# Altium schematic symbol library General_Component.SchLib: 12 symbols
Pins are listed as number, name and electrical type; pins without a type are passive.

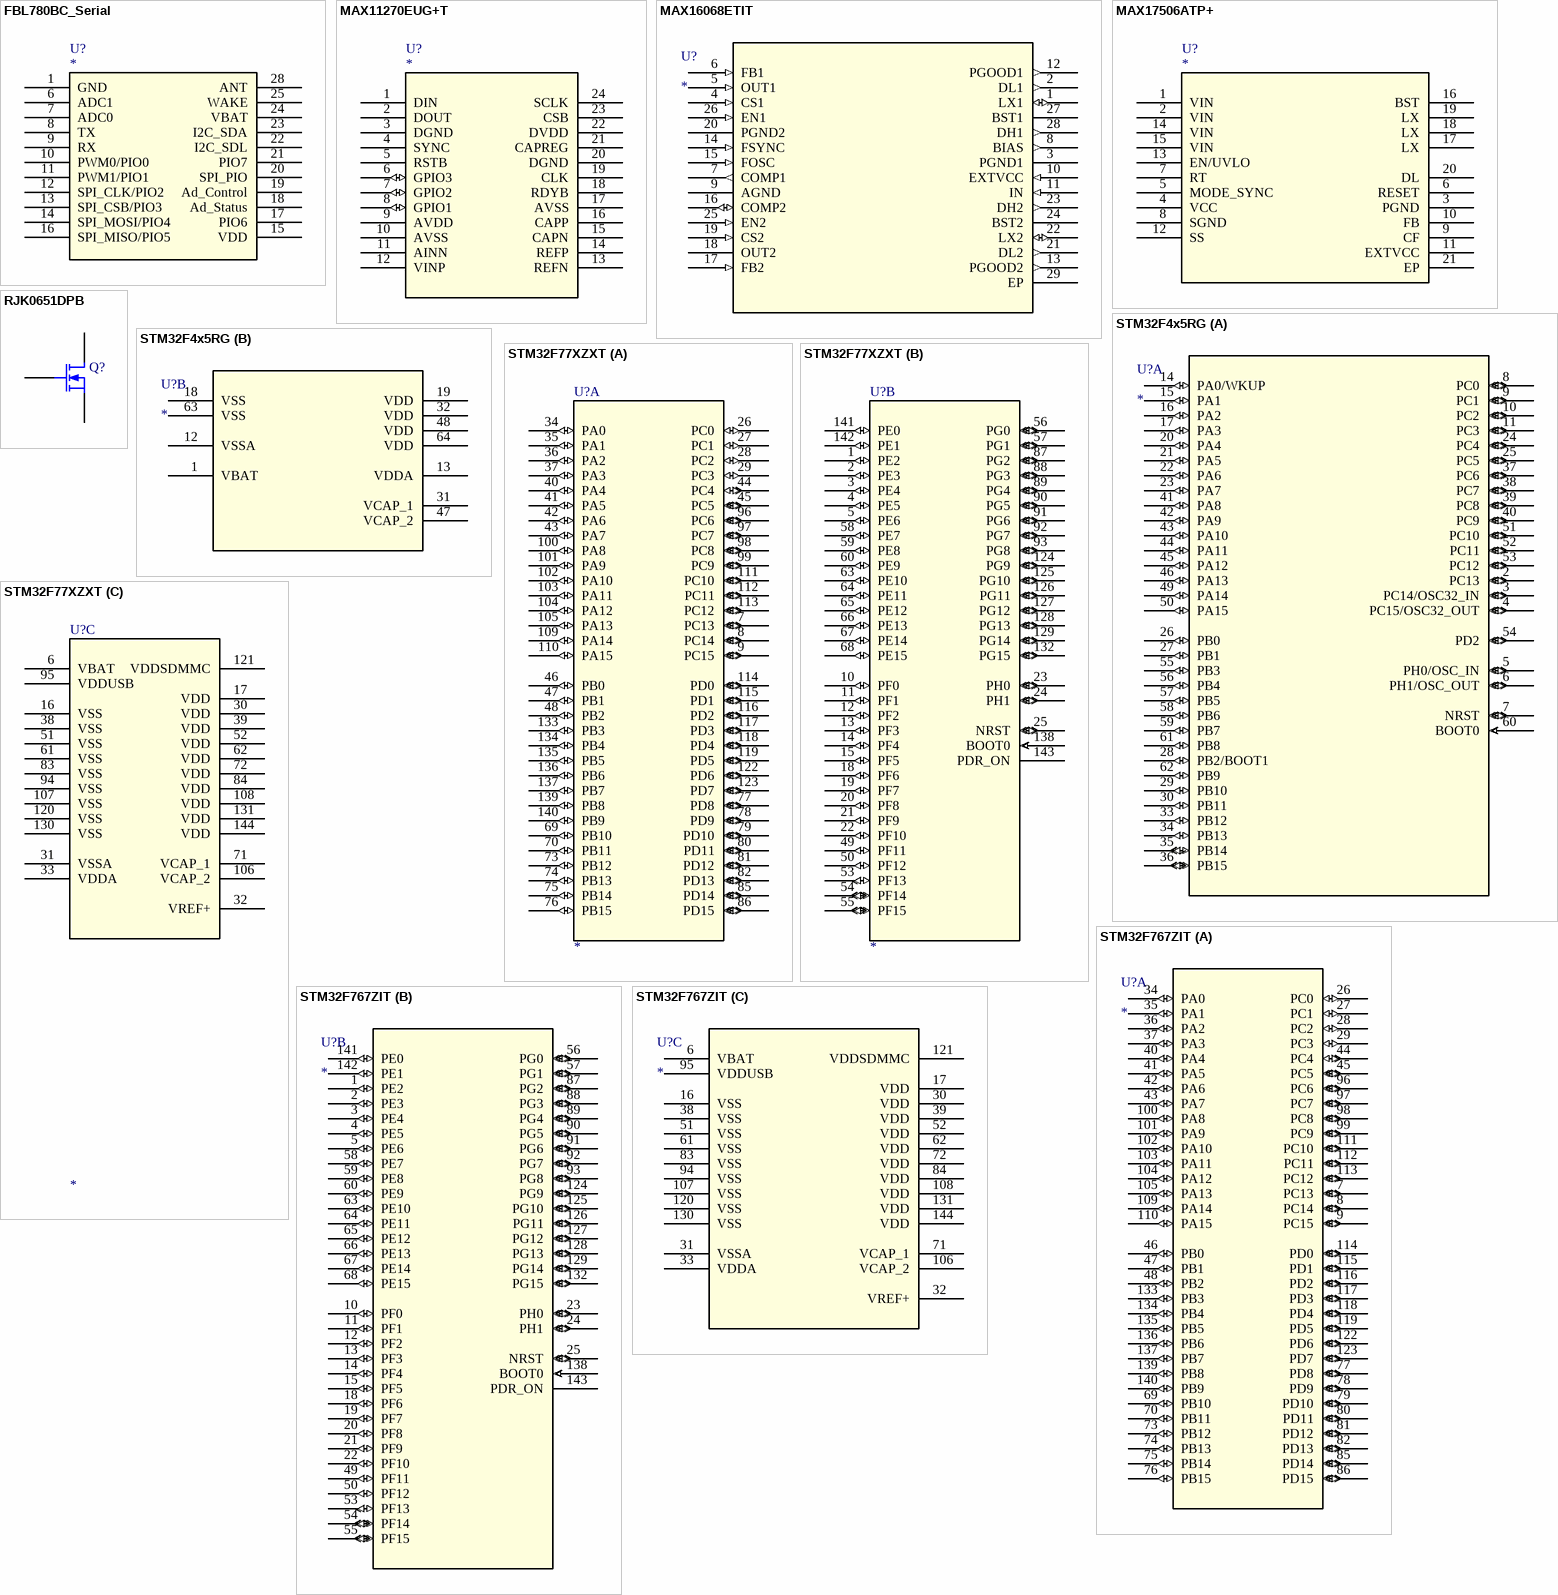
[diagram p0: symbols FBL780BC_Serial to STM32F767ZIT]

## FBL780BC_Serial
designator U?
Manufacturer: Firmtech; PartNumber: FBL780BC_Serial
footprint FBL780BC_Serial
pins: 1 GND (power), 6 ADC1, 7 ADC0, 8 TX, 9 RX, 10 PWM0/PIO0, 11 PWM1/PIO1, 12 SPI_CLK/PIO2, 13 SPI_CSB/PIO3, 14 SPI_MOSI/PIO4, 15 VDD (power), 16 SPI_MISO/PIO5, 17 PIO6, 18 Ad_Status, 19 Ad_Control, 20 SPI_PIO, 21 PIO7, 22 I2C_SDL, 23 I2C_SDA, 24 VBAT (power), 25 WAKE, 28 ANT

## MAX11270EUG+T
designator U?
Imported; PartNumber: MAX111270EUG+T; Manufacturer: Maxim; Value: Value; Type: Type; RefDes: RefDes
footprint 21-0066J_24
pins: 1 DIN, 2 DOUT, 3 DGND (power), 4 SYNC, 5 RSTB, 6 GPIO3 (io), 7 GPIO2 (io), 8 GPIO1 (io), 9 AVDD (power), 10 AVSS (power), 11 AINN, 12 VINP, 13 REFN, 14 REFP, 15 CAPN, 16 CAPP, 17 AVSS (power), 18 RDYB, 19 CLK, 20 DGND (power), 21 CAPREG (power), 22 DVDD (power), 23 CSB, 24 SCLK

## MAX16068ETIT
designator U?
Imported; Manufacturer_Part_Number: MAX16068ETI+T; Vendor: MAXIM; Manufacturer_Name: Maxim; Value: Value; Type: Type; RefDes: RefDes
footprint 21-0140L_T2855-6
pins: 1 LX1 (io), 2 DL1 (out), 3 PGND1 (power), 4 CS1 (in), 5 OUT1 (in), 6 FB1 (in), 7 COMP1 (out), 8 BIAS (out), 9 AGND (power), 10 EXTVCC (in), 11 IN (in), 12 PGOOD1 (out), 13 PGOOD2 (out), 14 FSYNC (in), 15 FOSC (in), 16 COMP2 (io), 17 FB2 (in), 18 OUT2, 19 CS2 (in), 20 PGND2 (power), 21 DL2 (out), 22 LX2 (io), 23 DH2 (out), 24 BST2, 25 EN2 (in), 26 EN1 (in), 27 BST1, 28 DH1 (out), 29 EP (power)

## MAX17506ATP+
designator U?
Manufacturer: Maxim; PartNumber: MAX17506ATP+; Value: Value; Type: Type; RefDes: RefDes
footprint 21-0140L_T2055-4
pins: 1 VIN, 2 VIN, 3 PGND, 4 VCC (power), 5 MODE_SYNC, 6 RESET, 7 RT, 8 SGND (power), 9 CF, 10 FB, 11 EXTVCC, 12 SS, 13 EN/UVLO, 14 VIN, 15 VIN, 16 BST, 17 LX, 18 LX, 19 LX, 20 DL, 21 EP

## RJK0651DPB
designator Q?, comment MOSFET-N  (value not drawn)
RJK0651DPB; Published: 8-Jun-2000; LatestRevisionDate: 17-Jul-2002; LatestRevisionNote: Re-released for DXP Platform.; PackageVersion: 1995/1996; PackageReference: E3; Publisher: Altium Limited; PackageDescription: TO, Flat Index; 3 In-Line, Axial Leads; Body Dia. 4.6mm; Lead Dia. 0.5 mm (max)
footprint SOT23-3
footprint SOIC127P600X175-8N (SOIC, 8-Leads, Body 4.90x3.90mm, Pitch 1.27mm, IPC Medium Density); pin to pad 1>2 2>3 3>1
footprint DPAK127P1525X483-7N (D2-PAK, 7-Pads, Body 7.93x8.63mm (max), IPC Medium Density)
pins: 1 G, 2 D, 3 S

## STM32F4x5RG
designator U?
Imported; PartNumber: STM32F405RG; Vendor: STMicroelectronics; Value: Value; Type: Type; RefDes: RefDes; Manufacturer: STMicroelectronics
footprint LQFP64-10x10mm
part A pins: 2 PC13 (io), 3 PC14/OSC32_IN (io), 4 PC15/OSC32_OUT (io), 5 PH0/OSC_IN (io), 6 PH1/OSC_OUT (io), 7 NRST (io), 8 PC0 (io), 9 PC1 (io), 10 PC2 (io), 11 PC3 (io), 14 PA0/WKUP (io), 15 PA1 (io), 16 PA2 (io), 17 PA3 (io), 20 PA4 (io), 21 PA5 (io), 22 PA6 (io), 23 PA7 (io), 24 PC4 (io), 25 PC5 (io), 26 PB0 (io), 27 PB1 (io), 28 PB2/BOOT1 (io), 29 PB10 (io), 30 PB11 (io), 33 PB12 (io), 34 PB13 (io), 35 PB14 (io), 36 PB15 (io), 37 PC6 (io), 38 PC7 (io), 39 PC8 (io), 40 PC9 (io), 41 PA8 (io), 42 PA9 (io), 43 PA10 (io), 44 PA11 (io), 45 PA12 (io), 46 PA13 (io), 49 PA14 (io), 50 PA15 (io), 51 PC10 (io), 52 PC11 (io), 53 PC12 (io), 54 PD2 (io), 55 PB3 (io), 56 PB4 (io), 57 PB5 (io), 58 PB6 (io), 59 PB7 (io), 60 BOOT0 (in), 61 PB8 (io), 62 PB9 (io)
part B pins: 1 VBAT (power), 12 VSSA (power), 13 VDDA (power), 18 VSS (power), 19 VDD (power), 31 VCAP_1 (power), 32 VDD (power), 47 VCAP_2 (power), 48 VDD (power), 63 VSS (power), 64 VDD (power)

## STM32F77XZXT
designator U?
Imported; Manufacturer_Part_Number: stm32f77xzxt; Vendor: STMicroelectronics; C: Copyright (C) 2016 Accelerated Designs. All rights reserved; Copyright: Copyright (C) 2016 Accelerated Designs. All rights reserved; Value: Value; Type: Type; RefDes: RefDes
footprint LQFP-144_20X20mm
part A pins: 7 PC13 (io), 8 PC14 (io), 9 PC15 (io), 26 PC0 (io), 27 PC1 (io), 28 PC2 (io), 29 PC3 (io), 34 PA0 (io), 35 PA1 (io), 36 PA2 (io), 37 PA3 (io), 40 PA4 (io), 41 PA5 (io), 42 PA6 (io), 43 PA7 (io), 44 PC4 (io), 45 PC5 (io), 46 PB0 (io), 47 PB1 (io), 48 PB2 (io), 69 PB10 (io), 70 PB11 (io), 73 PB12 (io), 74 PB13 (io), 75 PB14 (io), 76 PB15 (io), 77 PD8 (io), 78 PD9 (io), 79 PD10 (io), 80 PD11 (io), 81 PD12 (io), 82 PD13 (io), 85 PD14 (io), 86 PD15 (io), 96 PC6 (io), 97 PC7 (io), 98 PC8 (io), 99 PC9 (io), 100 PA8 (io), 101 PA9 (io), 102 PA10 (io), 103 PA11 (io), 104 PA12 (io), 105 PA13 (io), 109 PA14 (io), 110 PA15 (io), 111 PC10 (io), 112 PC11 (io), 113 PC12 (io), 114 PD0 (io), 115 PD1 (io), 116 PD2 (io), 117 PD3 (io), 118 PD4 (io), 119 PD5 (io), 122 PD6 (io), 123 PD7 (io), 133 PB3 (io), 134 PB4 (io), 135 PB5 (io), 136 PB6 (io), 137 PB7 (io), 139 PB8 (io), 140 PB9 (io)
part B pins: 1 PE2 (io), 2 PE3 (io), 3 PE4 (io), 4 PE5 (io), 5 PE6 (io), 10 PF0 (io), 11 PF1 (io), 12 PF2 (io), 13 PF3 (io), 14 PF4 (io), 15 PF5 (io), 18 PF6 (io), 19 PF7 (io), 20 PF8 (io), 21 PF9 (io), 22 PF10 (io), 23 PH0 (io), 24 PH1 (io), 25 NRST (io), 49 PF11 (io), 50 PF12 (io), 53 PF13 (io), 54 PF14 (io), 55 PF15 (io), 56 PG0 (io), 57 PG1 (io), 58 PE7 (io), 59 PE8 (io), 60 PE9 (io), 63 PE10 (io), 64 PE11 (io), 65 PE12 (io), 66 PE13 (io), 67 PE14 (io), 68 PE15 (io), 87 PG2 (io), 88 PG3 (io), 89 PG4 (io), 90 PG5 (io), 91 PG6 (io), 92 PG7 (io), 93 PG8 (io), 124 PG9 (io), 125 PG10 (io), 126 PG11 (io), 127 PG12 (io), 128 PG13 (io), 129 PG14 (io), 132 PG15 (io), 138 BOOT0 (in), 141 PE0 (io), 142 PE1 (io), 143 PDR_ON
part C pins: 6 VBAT (power), 16 VSS (power), 17 VDD (power), 30 VDD (power), 31 VSSA (power), 32 VREF+ (power), 33 VDDA (power), 38 VSS (power), 39 VDD (power), 51 VSS (power), 52 VDD (power), 61 VSS (power), 62 VDD (power), 71 VCAP_1 (power), 72 VDD (power), 83 VSS (power), 84 VDD (power), 94 VSS (power), 95 VDDUSB (power), 106 VCAP_2 (power), 107 VSS (power), 108 VDD (power), 120 VSS (power), 121 VDDSDMMC (power), 130 VSS (power), 131 VDD (power), 144 VDD (power)

## STM32F767ZIT
designator U?
Manufacturer_Part_Number: stm32f76xzxt; Vendor: STMicroelectronics; C: Copyright (C) 2016 Accelerated Designs. All rights reserved; Copyright: Copyright (C) 2016 Accelerated Designs. All rights reserved; Value: Value; Type: Type; RefDes: RefDes
footprint LQFP-144_20X20mm
part A pins: 7 PC13 (io), 8 PC14 (io), 9 PC15 (io), 26 PC0 (io), 27 PC1 (io), 28 PC2 (io), 29 PC3 (io), 34 PA0 (io), 35 PA1 (io), 36 PA2 (io), 37 PA3 (io), 40 PA4 (io), 41 PA5 (io), 42 PA6 (io), 43 PA7 (io), 44 PC4 (io), 45 PC5 (io), 46 PB0 (io), 47 PB1 (io), 48 PB2 (io), 69 PB10 (io), 70 PB11 (io), 73 PB12 (io), 74 PB13 (io), 75 PB14 (io), 76 PB15 (io), 77 PD8 (io), 78 PD9 (io), 79 PD10 (io), 80 PD11 (io), 81 PD12 (io), 82 PD13 (io), 85 PD14 (io), 86 PD15 (io), 96 PC6 (io), 97 PC7 (io), 98 PC8 (io), 99 PC9 (io), 100 PA8 (io), 101 PA9 (io), 102 PA10 (io), 103 PA11 (io), 104 PA12 (io), 105 PA13 (io), 109 PA14 (io), 110 PA15 (io), 111 PC10 (io), 112 PC11 (io), 113 PC12 (io), 114 PD0 (io), 115 PD1 (io), 116 PD2 (io), 117 PD3 (io), 118 PD4 (io), 119 PD5 (io), 122 PD6 (io), 123 PD7 (io), 133 PB3 (io), 134 PB4 (io), 135 PB5 (io), 136 PB6 (io), 137 PB7 (io), 139 PB8 (io), 140 PB9 (io)
part B pins: 1 PE2 (io), 2 PE3 (io), 3 PE4 (io), 4 PE5 (io), 5 PE6 (io), 10 PF0 (io), 11 PF1 (io), 12 PF2 (io), 13 PF3 (io), 14 PF4 (io), 15 PF5 (io), 18 PF6 (io), 19 PF7 (io), 20 PF8 (io), 21 PF9 (io), 22 PF10 (io), 23 PH0 (io), 24 PH1 (io), 25 NRST (io), 49 PF11 (io), 50 PF12 (io), 53 PF13 (io), 54 PF14 (io), 55 PF15 (io), 56 PG0 (io), 57 PG1 (io), 58 PE7 (io), 59 PE8 (io), 60 PE9 (io), 63 PE10 (io), 64 PE11 (io), 65 PE12 (io), 66 PE13 (io), 67 PE14 (io), 68 PE15 (io), 87 PG2 (io), 88 PG3 (io), 89 PG4 (io), 90 PG5 (io), 91 PG6 (io), 92 PG7 (io), 93 PG8 (io), 124 PG9 (io), 125 PG10 (io), 126 PG11 (io), 127 PG12 (io), 128 PG13 (io), 129 PG14 (io), 132 PG15 (io), 138 BOOT0 (in), 141 PE0 (io), 142 PE1 (io), 143 PDR_ON
part C pins: 6 VBAT (power), 16 VSS (power), 17 VDD (power), 30 VDD (power), 31 VSSA (power), 32 VREF+ (power), 33 VDDA (power), 38 VSS (power), 39 VDD (power), 51 VSS (power), 52 VDD (power), 61 VSS (power), 62 VDD (power), 71 VCAP_1 (power), 72 VDD (power), 83 VSS (power), 84 VDD (power), 94 VSS (power), 95 VDDUSB (power), 106 VCAP_2 (power), 107 VSS (power), 108 VDD (power), 120 VSS (power), 121 VDDSDMMC (power), 130 VSS (power), 131 VDD (power), 144 VDD (power)

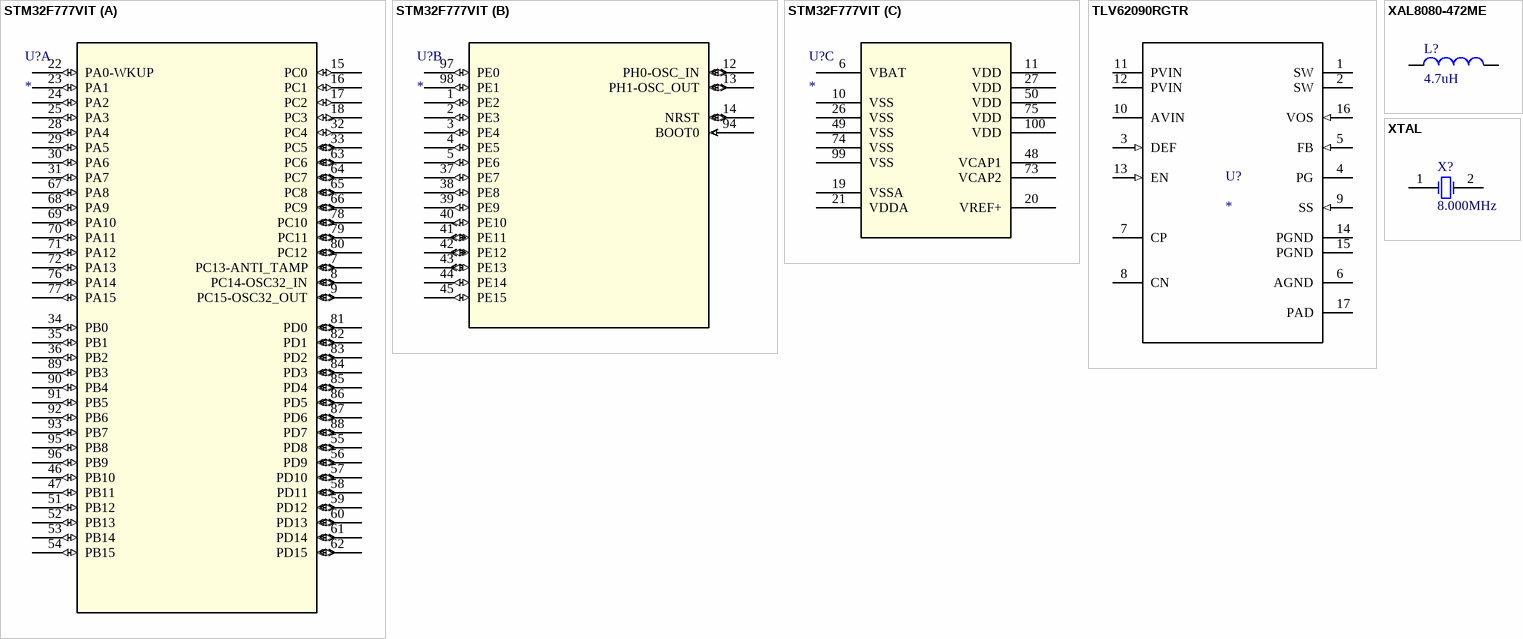
[diagram p1: symbols STM32F777VIT to XTAL]

## STM32F777VIT
designator U?
Imported; Manufacturer: STMicroelectronics; PartNumber: STM32F777VIT; Value: Value; Type: Type; RefDes: RefDes
footprint LQFP-100_14X14mm
part A pins: 7 PC13-ANTI_TAMP (io), 8 PC14-OSC32_IN (io), 9 PC15-OSC32_OUT (io), 15 PC0 (io), 16 PC1 (io), 17 PC2 (io), 18 PC3 (io), 22 PA0-WKUP (io), 23 PA1 (io), 24 PA2 (io), 25 PA3 (io), 28 PA4 (io), 29 PA5 (io), 30 PA6 (io), 31 PA7 (io), 32 PC4 (io), 33 PC5 (io), 34 PB0 (io), 35 PB1 (io), 36 PB2 (io), 46 PB10 (io), 47 PB11 (io), 51 PB12 (io), 52 PB13 (io), 53 PB14 (io), 54 PB15 (io), 55 PD8 (io), 56 PD9 (io), 57 PD10 (io), 58 PD11 (io), 59 PD12 (io), 60 PD13 (io), 61 PD14 (io), 62 PD15 (io), 63 PC6 (io), 64 PC7 (io), 65 PC8 (io), 66 PC9 (io), 67 PA8 (io), 68 PA9 (io), 69 PA10 (io), 70 PA11 (io), 71 PA12 (io), 72 PA13 (io), 76 PA14 (io), 77 PA15 (io), 78 PC10 (io), 79 PC11 (io), 80 PC12 (io), 81 PD0 (io), 82 PD1 (io), 83 PD2 (io), 84 PD3 (io), 85 PD4 (io), 86 PD5 (io), 87 PD6 (io), 88 PD7 (io), 89 PB3 (io), 90 PB4 (io), 91 PB5 (io), 92 PB6 (io), 93 PB7 (io), 95 PB8 (io), 96 PB9 (io)
part B pins: 1 PE2 (io), 2 PE3 (io), 3 PE4 (io), 4 PE5 (io), 5 PE6 (io), 12 PH0-OSC_IN (io), 13 PH1-OSC_OUT (io), 14 NRST (io), 37 PE7 (io), 38 PE8 (io), 39 PE9 (io), 40 PE10 (io), 41 PE11 (io), 42 PE12 (io), 43 PE13 (io), 44 PE14 (io), 45 PE15 (io), 94 BOOT0 (in), 97 PE0 (io), 98 PE1 (io)
part C pins: 6 VBAT (power), 10 VSS (power), 11 VDD (power), 19 VSSA (power), 20 VREF+ (power), 21 VDDA (power), 26 VSS (power), 27 VDD (power), 48 VCAP1 (power), 49 VSS (power), 50 VDD (power), 73 VCAP2 (power), 74 VSS (power), 75 VDD (power), 99 VSS (power), 100 VDD (power)

## TLV62090RGTR
designator U?
Imported; PartNumber: TLV62090RGT; Manufacturer: Texas Instruments; CompType: IC; PIN_COUNT: 17; PackageReference: RGT0016C; MountType: SMT; RoHS: Y; RefDes: RefDes; TYPE: TYPE; Value: Value
footprint RGT0016C
pins: 1 SW (power), 2 SW (power), 3 DEF (in), 4 PG (hiz), 5 FB (in), 6 AGND (power), 7 CP, 8 CN, 9 SS (in), 10 AVIN (power), 11 PVIN (power), 12 PVIN (power), 13 EN (in), 14 PGND (power), 15 PGND (power), 16 VOS (in), 17 PAD (power)

## XAL8080-472ME
designator L?  value 4.7uH
4.7uH 38A 4.08mOhms; PartNumber: XAL8080-472MED; Manufacturer: Coilcraft; Published: 8-Jun-2000; PackageReference: 0402-A; Publisher: Altium Limited; PackageDescription: Chip Inductor
simulation model INDUCTOR (Inductor)
signal-integrity model Inductor
footprint XAL8080
pins: 1, 2

## XTAL
designator X?, comment 8.000MHz
Crystal Oscillator; Manufacturer: NX; PartNumber: NX3225GD-8.000M-EXS00A-CG04874; PackageReference: R38; Value: 8.000MHz
footprint R38
footprint XTAL1
footprint HOSC-L500HW320H105-4_V (Quartz Crystal, Body 5.0 x 3.2 mm, Height 1.05mm)
footprint NDK_NX3225GD (NDK 8M Hz  3.2 x 2.5 mm)
footprint XTAL_3225 (Footprint not found)
footprint OSC_2SM_3R2x2R5 (Crystal 8M Hz 3.2x2.5mm SMD)
pins: 1 OSC1, 2 OSC2
2 alternate drawings of the same symbol